# Altium footprint library ADAPTONE_CARTE_DE_SON.PcbLib: 29 footprints (part 1 of 2)
Each footprint in its own frame and in the unit in brackets; x right, y up, seen from the top. Pads: shape width x height; smd on the part's side, far side on the other; paste and mask are expansions set on the pad; w line width, h text height; cw(c..) or ccw(c..) is an arc to the next point about the centre after c.
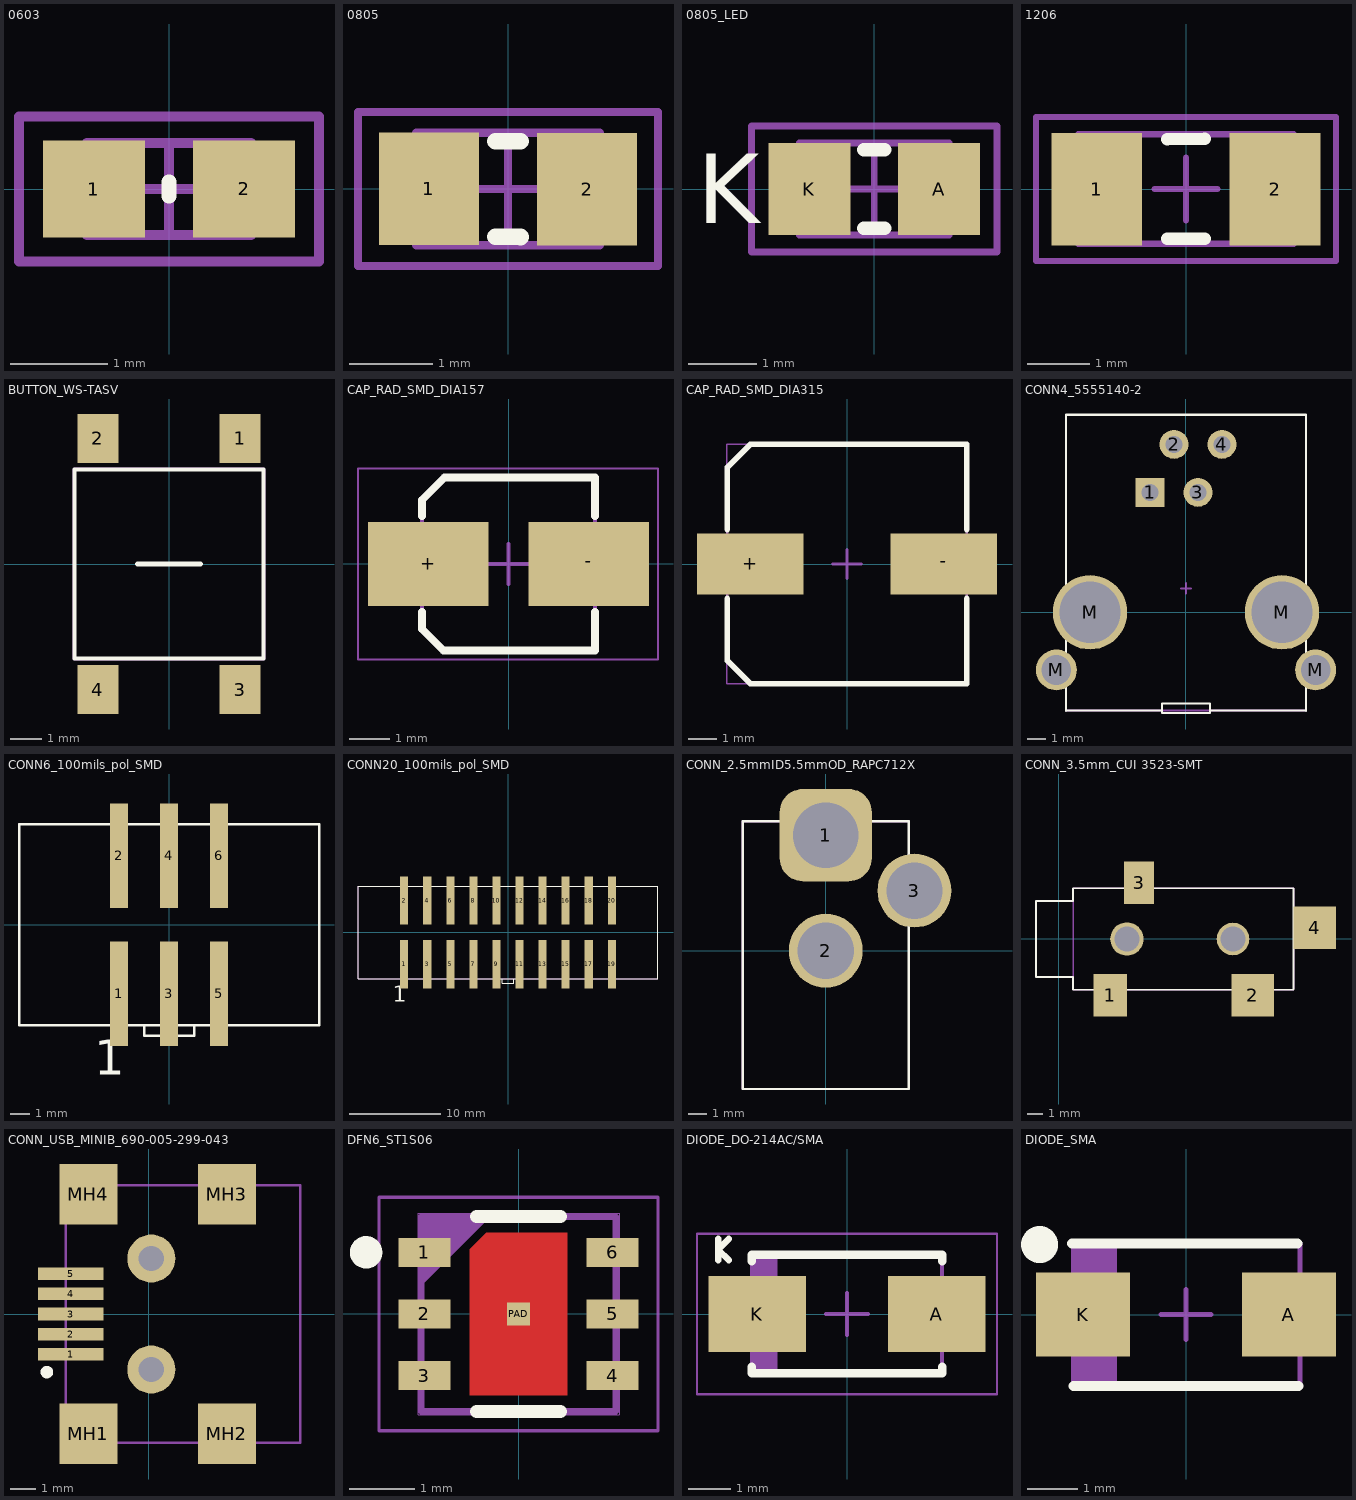
[diagram p0: the footprints below, top view; thin cyan lines are the x and y axes]

## 0603 [mm]
pads (2):
  rect 1.05x1 smd: 1(-0.775,0) 2(0.775,0)
Top Overlay:
  lines w0.152: 0,-0.076 0,0.076
Mechanical 13:
  lines w0.1: -0.85,-0.475 0.85,-0.475 0.85,0.475 -0.85,0.475 -0.85,-0.475
Mechanical 15:
  lines w0.1: -0.475,0 0.475,0 ; 0,-0.475 0,0.475 ; -1.55,-0.75 1.55,-0.75 1.55,0.75 -1.55,0.75 -1.55,-0.75
3D body: height 0.55, standoff 0, extent -0.85,-0.475 0.85,0.475

## 0805 [mm]
pads (2):
  rect 1.2x1.35 smd: 1(-0.95,0) 2(0.95,0)
Top Overlay:
  lines w0.2: -0.15,-0.575 0.15,-0.575 ; -0.15,0.575 0.15,0.575
Mechanical 13:
  lines w0.1: -1.1,-0.675 -1.1,0.675 1.1,0.675 1.1,-0.675 -1.1,-0.675
Mechanical 15:
  lines w0.1: -0.5,0 0.5,0 ; 0,-0.5 0,0.5 ; -1.8,-0.925 -1.8,0.925 1.8,0.925 1.8,-0.925 -1.8,-0.925
3D body: height 0.65, standoff 0, extent -1.1,-0.675 1.1,0.675

## 0805_LED [mm]
pads (2):
  rect 1.2x1.35 smd: A(0.95,0) K(-0.95,0)
Top Overlay:
  lines w0.2: -0.15,-0.575 0.15,-0.575 ; -0.15,0.575 0.15,0.575
  text "K" at -2.6,-0.5 h1.02
Mechanical 13:
  lines w0.1: -1.1,-0.675 -1.1,0.675 1.1,0.675 1.1,-0.675 -1.1,-0.675
Mechanical 15:
  lines w0.1: -0.5,0 0.5,0 ; 0,-0.5 0,0.5 ; -1.8,-0.925 -1.8,0.925 1.8,0.925 1.8,-0.925 -1.8,-0.925
3D body: height 0.65, standoff 0, extent -1.1,-0.675 1.1,0.675

## 1206 [mm]
pads (2):
  rect 1.45x1.8 smd: 1(-1.425,0) 2(1.425,0)
Top Overlay:
  lines w0.2: -0.3,-0.8 0.3,-0.8 ; -0.3,0.8 0.3,0.8
Mechanical 13:
  lines w0.1: -1.725,-0.875 -1.725,0.875 1.725,0.875 1.725,-0.875 -1.725,-0.875
Mechanical 15:
  lines w0.1: -0.5,0 0.5,0 ; 0,-0.5 0,0.5 ; -2.4,-1.15 -2.4,1.15 2.4,1.15 2.4,-1.15 -2.4,-1.15
3D body: height 0.7, standoff 0, extent -1.725,-0.875 1.725,0.875

## BUTTON_WS-TASV [mm]
pads (4):
  rect 1.3x1.55 smd mask+0.12: 1(2.25,3.975) 2(-2.25,3.975) 3(2.25,-3.975) 4(-2.25,-3.975)
Top Overlay:
  lines w0.127: -3,-3 -3,3 3,3 3,-3 -3,-3
  lines w0.152: -1,0 1,0
Mechanical 13:
  lines w0.1: -3,-3 -3,3 3,3 3,-3 -3,-3
Mechanical 15:
  lines w0.1: -3,-3 -3,3 3,3 3,-3 -3,-3
3D body "430152050826 (rev1).stp": height 5, standoff 0, extent -3.1,-4.5 3.1,4.5

## CAP_RAD_SMD_DIA157 [mm]
pads (2):
  rect 3x2.1 smd: +(-2,0) -(2,0)
Top Overlay:
  lines w0.2: -2.15,-1.2 -2.15,-1.625 -1.625,-2.15 2.15,-2.15 2.15,-1.2 ; -2.15,1.2 -2.15,1.6 -1.6,2.15 2.15,2.15 2.15,1.2
Mechanical 13:
  lines w0.1: -2.15,-1.625 -1.625,-2.15 2.15,-2.15 2.15,2.15 -1.6,2.15 -2.15,1.6 -2.15,-1.625
Mechanical 15:
  lines w0.05: -3.75,-2.375 -3.75,2.375 3.725,2.375 3.725,-2.375 -3.75,-2.375
  lines w0.1: -0.5,0 0.5,0 ; 0,-0.5 0,0.5
3D body: height 5.2, standoff 0, extent -2.133,-2.146 2.15,2.146

## CAP_RAD_SMD_DIA315 [mm]
pads (2):
  rect 3.7x2.1 smd: +(-3.35,0) -(3.35,0)
Top Overlay:
  lines w0.2: -4.15,-1.2 -4.15,-3.35 -3.35,-4.15 4.15,-4.15 4.15,-1.2 ; -4.15,1.2 -4.15,3.35 -3.35,4.15 4.15,4.15 4.15,1.2
Mechanical 13:
  lines w0.1: -4.15,-3.35 -4.15,3.35 -3.35,4.15 4.15,4.15 4.15,-4.15 -3.35,-4.15 -4.15,-3.35
Mechanical 15:
  lines w0.05: -4.175,-4.15 4.15,-4.15 4.15,4.15 -4.175,4.15 -4.175,-4.15
  lines w0.1: -0.5,0 0.5,0 ; 0,-0.5 0,0.5
3D body: height 6, standoff 0, extent -3.968,-3.992 4,3.992

## CONN4_5555140-2 [mil]
pads (8):
  rect 60x60 hole 35.04 mask+4.72: 1(-75,250)
  round 60 hole 35.04 mask+4.72: 2(-25,350) 3(25,250) 4(75,350)
  round 85 hole 61.81 mask+4.72: M(-270.08,-120.08) M(270.08,-120.08)
  round 155 hole 127.95 mask+4.72: M(-200,0) M(200,0)
Top Overlay:
  lines w3.94: -250,-204.72 -50,-204.72 ; 50,-204.72 250,-204.72 ; -50,-210 50,-210 50,-190 -50,-190 -50,-210
  lines w5: -250,-204.72 -250,411.42 250,411.42 250,-204.72
Mechanical 13:
  lines w3.94: -250,-204.72 250,-204.72 250,411.42 -250,411.42 -250,-204.72
Mechanical 15:
  lines w3.94: -10.83,50 10.83,50 ; 0,39.17 0,60.83 ; -250,-204.72 -250,411.42 250,411.42 250,-204.72 -250,-204.72
3D body "c-5555140-2-e-3d.stp": height 536.91, standoff -177.49, extent -309.02,-320.35 310.98,409.45

## CONN6_100mils_pol_SMD [mm]
pads (6):
  rect 0.89x5.308 smd mask+0.12: 1(-2.54,-3.504) 2(-2.54,3.504) 3(0,-3.504) 4(0,3.504) 5(2.54,-3.504) 6(2.54,3.504)
Top Overlay:
  lines w0.127: -1.27,-5.131 -1.27,-5.639 1.27,-5.639 1.27,-5.131 ; -7.62,-5.1 7.62,-5.1 7.62,5.1 -7.62,5.1 -7.62,-5.1
  text "1" at -3.81,-7.62 h1.78
Mechanical 13:
  lines w0.1: -7.62,-5.1 7.62,-5.1 7.62,5.1 -7.62,5.1 -7.62,-5.1
Mechanical 15:
  lines w0.1: -7.62,-5.1 7.62,-5.1 7.62,5.1 -7.62,5.1 -7.62,-5.1
3D body: height 9, standoff 0, extent -7.62,-5.1 7.62,5.1

## CONN20_100mils_pol_SMD [mm]
pads (20):
  rect 0.89x5.308 smd mask+0.12: 1(-11.43,-3.504) 2(-11.43,3.504) 3(-8.89,-3.504) 4(-8.89,3.504) 5(-6.35,-3.504) 6(-6.35,3.504) 7(-3.81,-3.504) 8(-3.81,3.504) 9(-1.27,-3.504) 10(-1.27,3.504) 11(1.27,-3.504) 12(1.27,3.504) 13(3.81,-3.504) 14(3.81,3.504) 15(6.35,-3.504) 16(6.35,3.504) 17(8.89,-3.504) 18(8.89,3.504) 19(11.43,-3.504) 20(11.43,3.504)
Top Overlay:
  lines w0.127: -0.635,-5.1 -0.635,-5.608 0.635,-5.608 0.635,-5.1 ; -16.51,-5.1 -16.51,5.1 16.51,5.1 16.51,-5.1 -16.51,-5.1
  text "1" at -12.7,-7.62 h1.78
Mechanical 13:
  lines w0.1: -16.51,-5.1 -16.51,5.1 16.51,5.1 16.51,-5.1 -16.51,-5.1
Mechanical 15:
  lines w0.1: -16.51,-5.1 -16.51,5.1 16.51,5.1 16.51,-5.1 -16.51,-5.1
3D body: height 9, standoff 0, extent -16.51,-5.1 16.51,5.1

## CONN_2.5mmID5.5mmOD_RAPC712X [mm]
pads (3):
  rrect50% 5x5 hole 3.56 mask+0.12: 1(0,6.25)
  round 4 hole 3.05 mask+0.12: 2(0,0) 3(4.8,3.25)
Top Overlay:
  lines w0.127: -4.5,-7.49 -4.5,-5.39 -4.5,7.01 4.5,7.01 4.5,-7.49 -2.8,-7.49 -4.5,-7.49
Mechanical 13:
  lines w0.1: -4.5,-7.49 -4.5,7.01 4.5,7.01 4.5,-7.49 -4.5,-7.49
Mechanical 15:
  lines w0.1: -0.275,0 0.275,0 ; 0,-0.275 0,0.275 ; -4.5,-7.49 4.5,-7.49 4.5,7 -4.5,7 -4.5,-7.49
3D body "RASH712X.STEP": height 10.85, standoff -3.56, extent -7.6,-7.535 7.422,9.534

## CONN_3.5mm_CUI 3523-SMT [mm]
pads (6):
  rect 2.2x2.8 smd mask+0.12: 1(3.4,-3.7)
  rect 2.8x2.8 smd mask+0.12: 2(12.8,-3.7) 4(16.9,0.75)
  rect 2x2.8 smd mask+0.12: 3(5.3,3.7)
  rrect100% 2.2x2.2 hole 1.65 mask+0.02: ""(4.5,0)
  rrect100% 2.159x2.159 hole 1.65 mask+0.02: ""(11.5,0)
Top Overlay:
  lines w0.127: 15.5,-3.35 0.95,-3.35 0.95,-2.5 -1.5,-2.5 -1.5,2.5 0.95,2.5 0.95,3.35 15.5,3.35 15.5,-3.275
Mechanical 13:
  lines w0.1: 0.95,-3.35 0.95,3.35 15.5,3.35 15.5,-3.35 0.95,-3.35
Mechanical 15:
  lines w0.1: 0.95,-3.35 15.5,-3.35 15.5,3.35 0.95,3.35 0.95,-3.35
3D body "sj-3523-smt.stp": height 5, standoff -0.8, extent -1.5,-4.5 15.5,4.5

## CONN_USB_MINIB_690-005-299-043 [mm]
pads (11):
  rect 2.6x0.5 smd mask+0.076: 1(-3.1,-1.6) 2(-3.1,-0.8) 3(-3.1,0) 4(-3.1,0.8) 5(-3.1,1.6)
  rect 2.3x2.4 smd: MH1(-2.4,-4.75) MH2(3.1,-4.75) MH3(3.1,4.75) MH4(-2.4,4.75)
  round 1.905 hole 1: ""(0.1,-2.2) ""(0.1,2.2)
Top Overlay:
  circle w0.25: c-4.044,-2.305 r0.125
Mechanical 13:
  lines w0.1: -3.3,-5.1 -3.3,5.1 6,5.1 6,-5.1 -3.3,-5.1
3D body "690-005-299-043.STEP": height 4.24, standoff -0.43, extent -3.327,-5.125 5.973,5.125

## DFN6_ST1S06 [mm]
pads (7):
  rect 0.8x0.45 smd: 1(-1.45,0.95) 2(-1.45,0) 3(-1.45,-0.95) 4(1.45,-0.95) 5(1.45,0) 6(1.45,0.95)
  rect 0.35x0.35 smd: PAD(0,0)
Top Layer:
  region: -0.75,1 -0.5,1.25 0.75,1.25 0.75,-1.25 -0.75,-1.25
Top Overlay:
  circle w0.25: c-2.35,0.95 r0.125
  lines w0.2: -0.65,-1.5 0.65,-1.5 ; -0.65,1.5 0.65,1.5
Top Paste:
  region: -0.5,0.8 0.5,0.8 0.5,-0.8 -0.5,-0.8
Top Solder:
  region: -0.75,1 -0.5,1.25 0.75,1.25 0.75,-1.25 -0.75,-1.25
Mechanical 15:
  lines w0.1: -1.5,0.5 -0.5,1.5 ; -1.5,0.6 -0.6,1.5 ; -1.5,0.7 -0.7,1.5 ; -1.5,0.8 -0.8,1.5 ; -1.5,0.9 -0.9,1.5 ; -1.5,1 -1,1.5 ; -1.5,1.1 -1.1,1.5 ; -1.5,1.2 -1.2,1.5 ; -1.5,1.3 -1.3,1.5 ; -1.5,1.4 -1.4,1.5 ; -1.5,-1.5 -1.5,1.5 1.5,1.5 1.5,-1.5 -1.5,-1.5
Mechanical 16:
  circle w0.05: c0,0 r0.35
  lines w0.001: -1.55,-1.55 -1.55,1.55 1.55,1.55 1.55,-1.55 -1.55,-1.55
  lines w0.05: -0.5,0 0.5,0 ; 0,-0.5 0,0.5 ; -2.15,-1.8 2.15,-1.8 2.15,1.8 -2.15,1.8 -2.15,-1.8
3D body: height 0.9, standoff 0, extent -1.5,-1.5 1.5,1.5

## DIODE_DO-214AC/SMA [mm]
pads (2):
  rect 2.3x1.8 smd: A(2.125,0) K(-2.125,0)
Top Overlay:
  lines w0.152: -3.048,1.27 -3.048,1.778 ; -2.794,1.27 -3.048,1.524 -2.794,1.778
  lines w0.2: -2.25,-1.25 -2.25,-1.4 2.25,-1.4 2.25,-1.25 ; -2.25,1.25 -2.25,1.4 2.25,1.4 2.25,1.25
Mechanical 13:
  rectangle: -2.25,-1.395 -1.645,1.395
  lines w0.1: -2.25,-1.395 2.25,-1.395 2.25,1.395 -2.25,1.395 -2.25,-1.395
Mechanical 15:
  lines w0.05: -3.55,-1.9 3.55,-1.9 3.55,1.9 -3.55,1.9 -3.55,-1.9
  lines w0.1: -0.5,0 0.5,0 ; 0,-0.5 0,0.5
3D body: height 2.29, standoff 0, extent -2.25,-1.395 2.25,1.395

## DIODE_SMA [mil]
pads (2):
  rect 74x66 smd: A(81,0) K(-81,0)
Top Overlay:
  circle w25: c-115.16,55.12 r1.97
  lines w7.87: -89.57,56.1 87.6,56.1 ; -88.58,-56.1 88.58,-56.1
Mechanical 13:
  rectangle: -89.57,-55.12 -54.13,55.12
  lines w3.94: -88.58,-56.1 89.57,-56.1 89.57,56.1 -88.58,56.1 -88.58,-56.1
Mechanical 15:
  lines w3.94: -19.69,0 19.69,0 ; 0,-19.69 0,19.69 ; -88.58,-56.1 89.57,-56.1 89.57,56.1 -88.58,56.1 -88.58,-56.1
3D body: height 98.43, standoff 0, extent -88.58,-56.1 88.58,56.1